# EAGLE library part 70553-11 (library con-molex-c-grid)
C-Grid SL
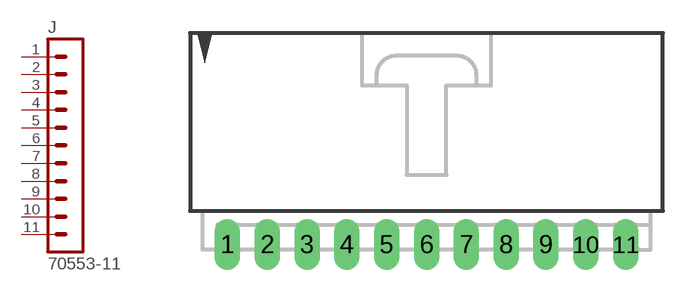
[diagram p25: symbol with the pads of 70553-11; footprint 70553-11]

Designator prefix J

## 70553-11  [70553-11]
1  1  pas
2  2  pas
3  3  pas
4  4  pas
5  5  pas
6  6  pas
7  7  pas
8  8  pas
9  9  pas
10  10  pas
11  11  pas

## Footprint 70553-11 (pad centres in mm)
C-Grid SL right angle
drill 1.092 long: 1 -12.7,-7.62; 2 -10.16,-7.62; 3 -7.62,-7.62; 4 -5.08,-7.62; 5 -2.54,-7.62; 6 0,-7.62; 7 2.54,-7.62; 8 5.08,-7.62; 9 7.62,-7.62; 10 10.16,-7.62; 11 12.7,-7.62